# Altium integrated library TI Data Converters Digital to Analog Converter.IntLib: 1533 symbols (part 72 of 99)
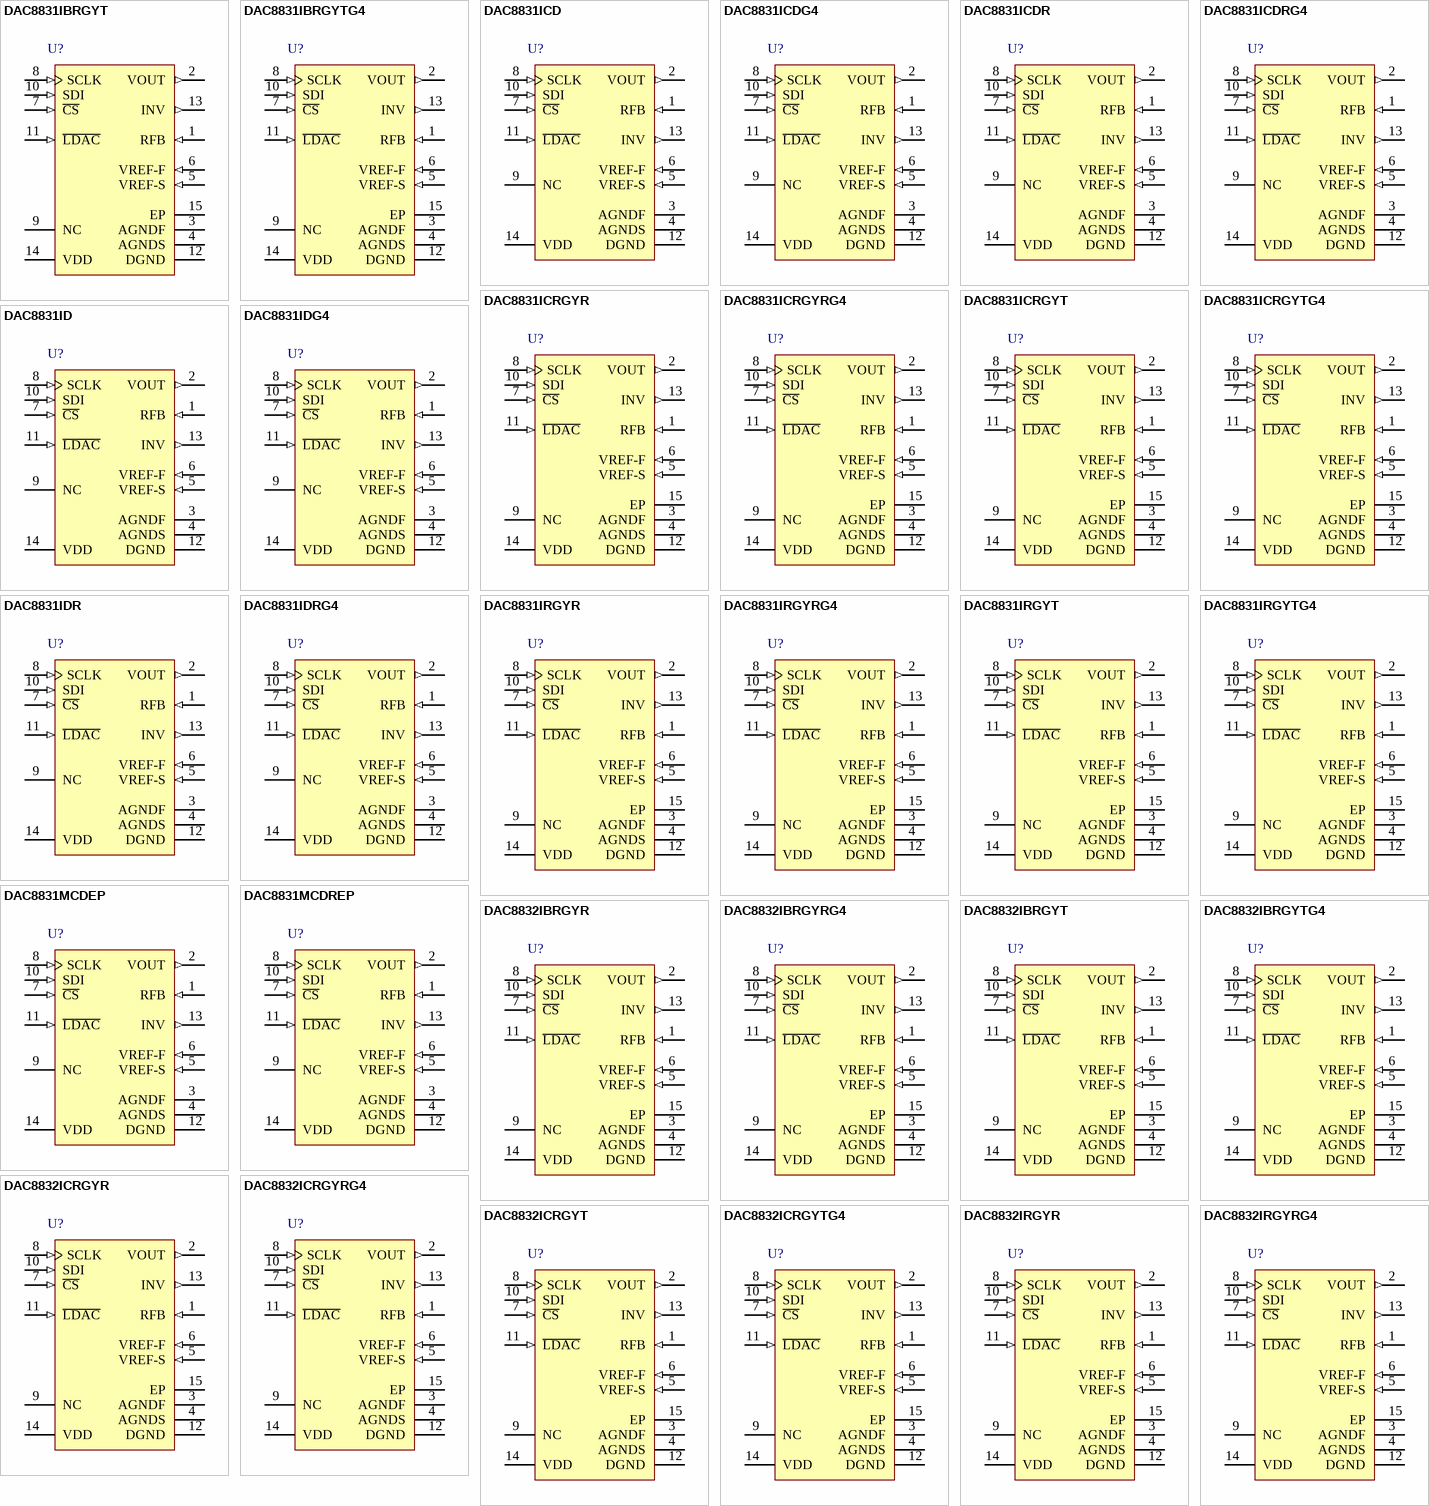
[diagram p144: symbols DAC8831IBRGYT to DAC8832IRGYRG4]

## DAC8831IBRGYTG4
designator U?
16-Bit, Ultra-Low Power, Voltage Output Digital to Analog Converter, -40 to 85 degC, 14-pin QFN (RGY14), Green (RoHS & no Sb/Br); Manufacturer: Texas Instruments; PartNumber: DAC8831IBRGYTG4; DAC Channels: 1; INL(Max)(+/-LSB): 2; Interface: Serial SPI; Power Consumption(Typ)(mW): 0.015; Resolution(Bits): 16; SubFamily: Precision DAC (=<10MSPS); DatasheetVersion: SLAS449D; PackageVersion: 4203539-2/I, 06/2011; PackageReference: RGY14-2050X2050TP; PackageDescription: 14-Pin Plastic Flat Pack, Body 3.5 x 3.5 mm, Pitch 0.5 mm; Supplier 1: Digi-Key; Supplier Part Number 1: DAC8831IBRGYTG4-ND; Supplier 2: Mouser; Supplier Part Number 2: 595-DAC8831IBRGYTG4; DNL(Max)(+/-LSB): 1; Eco-Plan: Green (RoHS & no Sb/Br); Settling Time(us): 1; Mounting Technology: Surface Mount; Code_JEDEC: MO-241; ComponentLink1Description: Manufacturer URL; ComponentLink1URL: http://www.ti.com/; ComponentLink2Description: Datasheet; ComponentLink2URL: http://www.ti.com/general/docs/lit/getliterature.tsp?genericPartNumber=DAC8831&fileType=pdf; ComponentLink3Description: Package Specification; ComponentLink3URL: http://www.ti.com/lit/ml/mpqf114g/mpqf114g.pdf
footprint TI-RGY14-2050X2050TP_V (QFN, 14-Leads, Body 3.5x3.5mm, Pitch 0.5mm, Thermal Pad 2.05x2.05mm)
pins: 1 RFB (in) "Feedback resistor. Connect to the output of external operational amplifier in bipolar mode.", 2 VOUT (out) "Analog output of DAC", 3 AGNDF (power) "Analog ground (Force)", 4 AGNDS (power) "Analog ground (Sense)", 5 VREF-S (in) "Voltage reference input (Sense). Connect to external voltage reference", 6 VREF-F (in) "Voltage reference input (Force). Connect to external voltage reference", 7 ~{CS} (in) "Chip select input (active low). Data are not clocked into SDI unless C\S\ is low.", 8 SCLK (in) "Serial clock input.", 9 NC "No internal connection", 10 SDI (in) "Serial data input. Data are latched into input register on the rising edge of SCLK", 11 ~{LDAC} (in) "Load DAC control input. Active low. When L\D\A\C\ is Low, the DAC latch is simultaneously updated with the content of the input register.", 12 DGND (power) "Digital ground", 13 INV (out) "Junction point of internal scaling resistors. Connect to external operational amplifier inverting input in bipolar mode.", 14 VDD (power) "Analog power supply, +3 V to +5 V", 15 EP (power) "Exposed thermal pad in the QFN package must be connected to analog ground."

## DAC8831ICD
designator U?
16-Bit, Ultra-Low Power, Voltage Output Digital to Analog Converter, -40 to 85 degC, 14-pin SOIC (D14), Green (RoHS & no Sb/Br); Manufacturer: Texas Instruments; PartNumber: DAC8831ICD; DAC Channels: 1; Interface: Serial SPI; Power Consumption(Typ)(mW): 0.015; Resolution(Bits): 16; SubFamily: Precision DAC (=<10MSPS); DatasheetVersion: SLAS449D; PackageVersion: 4040047-5/M, 06/2011; PackageReference: D14; PackageDescription: 14-Pin Plastic Small Outline, Body 8.65 x 3.9 mm, Pitch 1.27 mm; Supplier 1: Digi-Key; Supplier Part Number 1: 296-18029-5-ND; Supplier 2: Farnell; Supplier Part Number 2: 1407780; Supplier 3: Newark; Supplier Part Number 3: 33K5140; Supplier 4: Mouser; Supplier Part Number 4: 595-DAC8831ICD; DNL(Max)(+/-LSB): 1; Eco-Plan: Green (RoHS & no Sb/Br); INL(Max)(+/-LSB): 1; Settling Time(us): 1; Mounting Technology: Surface Mount; Code_JEDEC: MS-012; ComponentLink1Description: Manufacturer URL; ComponentLink1URL: http://www.ti.com/; ComponentLink2Description: Datasheet; ComponentLink2URL: http://www.ti.com/general/docs/lit/getliterature.tsp?genericPartNumber=DAC8831&fileType=pdf; ComponentLink3Description: Package Specification; ComponentLink3URL: http://www.ti.com/lit/ml/mpds177g/mpds177g.pdf
footprint TI-D14_N (SOIC, 14-Leads, Body 8.65x3.9mm, Pitch 1.27mm, IPC Medium Density)
footprint TI-D14_L (SOIC, 14-Leads, Body 8.65x3.9mm, Pitch 1.27mm, IPC High Density)
footprint TI-D14_M (SOIC, 14-Leads, Body 8.65x3.9mm, Pitch 1.27mm, IPC Low Density)
pins: 1 RFB (in) "Feedback resistor. Connect to the output of external operational amplifier in bipolar mode.", 2 VOUT (out) "Analog output of DAC", 3 AGNDF (power) "Analog ground (Force)", 4 AGNDS (power) "Analog ground (Sense)", 5 VREF-S (in) "Voltage reference input (Sense). Connect to external voltage reference", 6 VREF-F (in) "Voltage reference input (Force). Connect to external voltage reference", 7 ~{CS} (in) "Chip select input (active low). Data are not clocked into SDI unless C\S\ is low.", 8 SCLK (in) "Serial clock input.", 9 NC "No internal connection", 10 SDI (in) "Serial data input. Data are latched into input register on the rising edge of SCLK.", 11 ~{LDAC} (in) "Load DAC control input. Active low. When L\D\A\C\ is Low, the DAC latch is simultaneously updated with the content of the input register.", 12 DGND (power) "Digital ground", 13 INV (out) "Junction point of internal scaling resistors. Connect to external operational amplifier inverting input in bipolar mode.", 14 VDD (power) "Analog power supply, +3 V to +5 V."

## DAC8831ICDG4
designator U?
16-Bit, Ultra-Low Power, Voltage Output Digital to Analog Converter, -40 to 85 degC, 14-pin SOIC (D14), Green (RoHS & no Sb/Br); Manufacturer: Texas Instruments; PartNumber: DAC8831ICDG4; DAC Channels: 1; Interface: Serial SPI; Power Consumption(Typ)(mW): 0.015; Resolution(Bits): 16; SubFamily: Precision DAC (=<10MSPS); DatasheetVersion: SLAS449D; PackageVersion: 4040047-5/M, 06/2011; PackageReference: D14; PackageDescription: 14-Pin Plastic Small Outline, Body 8.65 x 3.9 mm, Pitch 1.27 mm; Supplier 1: Digi-Key; Supplier Part Number 1: DAC8831ICDG4-ND; Supplier 2: Mouser; Supplier Part Number 2: 595-DAC8831ICDG4; DNL(Max)(+/-LSB): 1; Eco-Plan: Green (RoHS & no Sb/Br); INL(Max)(+/-LSB): 1; Settling Time(us): 1; Mounting Technology: Surface Mount; Code_JEDEC: MS-012; ComponentLink1Description: Manufacturer URL; ComponentLink1URL: http://www.ti.com/; ComponentLink2Description: Datasheet; ComponentLink2URL: http://www.ti.com/general/docs/lit/getliterature.tsp?genericPartNumber=DAC8831&fileType=pdf; ComponentLink3Description: Package Specification; ComponentLink3URL: http://www.ti.com/lit/ml/mpds177g/mpds177g.pdf
footprint TI-D14_N (SOIC, 14-Leads, Body 8.65x3.9mm, Pitch 1.27mm, IPC Medium Density)
footprint TI-D14_L (SOIC, 14-Leads, Body 8.65x3.9mm, Pitch 1.27mm, IPC High Density)
footprint TI-D14_M (SOIC, 14-Leads, Body 8.65x3.9mm, Pitch 1.27mm, IPC Low Density)
pins: 1 RFB (in) "Feedback resistor. Connect to the output of external operational amplifier in bipolar mode.", 2 VOUT (out) "Analog output of DAC", 3 AGNDF (power) "Analog ground (Force)", 4 AGNDS (power) "Analog ground (Sense)", 5 VREF-S (in) "Voltage reference input (Sense). Connect to external voltage reference", 6 VREF-F (in) "Voltage reference input (Force). Connect to external voltage reference", 7 ~{CS} (in) "Chip select input (active low). Data are not clocked into SDI unless C\S\ is low.", 8 SCLK (in) "Serial clock input.", 9 NC "No internal connection", 10 SDI (in) "Serial data input. Data are latched into input register on the rising edge of SCLK.", 11 ~{LDAC} (in) "Load DAC control input. Active low. When L\D\A\C\ is Low, the DAC latch is simultaneously updated with the content of the input register.", 12 DGND (power) "Digital ground", 13 INV (out) "Junction point of internal scaling resistors. Connect to external operational amplifier inverting input in bipolar mode.", 14 VDD (power) "Analog power supply, +3 V to +5 V."

## DAC8831ICDR
designator U?
16-Bit, Ultra-Low Power, Voltage Output Digital to Analog Converter, -40 to 85 degC, 14-pin SOIC (D14), Green (RoHS & no Sb/Br); Manufacturer: Texas Instruments; PartNumber: DAC8831ICDR; DAC Channels: 1; Interface: Serial SPI; Power Consumption(Typ)(mW): 0.015; Resolution(Bits): 16; SubFamily: Precision DAC (=<10MSPS); DatasheetVersion: SLAS449D; PackageVersion: 4040047-5/M, 06/2011; PackageReference: D14; PackageDescription: 14-Pin Plastic Small Outline, Body 8.65 x 3.9 mm, Pitch 1.27 mm; Supplier 1: Digi-Key; Supplier Part Number 1: DAC8831ICDR-ND; Supplier 2: Mouser; Supplier Part Number 2: 595-DAC8831ICDR; DNL(Max)(+/-LSB): 1; Eco-Plan: Green (RoHS & no Sb/Br); INL(Max)(+/-LSB): 1; Settling Time(us): 1; Mounting Technology: Surface Mount; Code_JEDEC: MS-012; ComponentLink1Description: Manufacturer URL; ComponentLink1URL: http://www.ti.com/; ComponentLink2Description: Datasheet; ComponentLink2URL: http://www.ti.com/general/docs/lit/getliterature.tsp?genericPartNumber=DAC8831&fileType=pdf; ComponentLink3Description: Package Specification; ComponentLink3URL: http://www.ti.com/lit/ml/mpds177g/mpds177g.pdf
footprint TI-D14_N (SOIC, 14-Leads, Body 8.65x3.9mm, Pitch 1.27mm, IPC Medium Density)
footprint TI-D14_L (SOIC, 14-Leads, Body 8.65x3.9mm, Pitch 1.27mm, IPC High Density)
footprint TI-D14_M (SOIC, 14-Leads, Body 8.65x3.9mm, Pitch 1.27mm, IPC Low Density)
pins: 1 RFB (in) "Feedback resistor. Connect to the output of external operational amplifier in bipolar mode.", 2 VOUT (out) "Analog output of DAC", 3 AGNDF (power) "Analog ground (Force)", 4 AGNDS (power) "Analog ground (Sense)", 5 VREF-S (in) "Voltage reference input (Sense). Connect to external voltage reference", 6 VREF-F (in) "Voltage reference input (Force). Connect to external voltage reference", 7 ~{CS} (in) "Chip select input (active low). Data are not clocked into SDI unless C\S\ is low.", 8 SCLK (in) "Serial clock input.", 9 NC "No internal connection", 10 SDI (in) "Serial data input. Data are latched into input register on the rising edge of SCLK.", 11 ~{LDAC} (in) "Load DAC control input. Active low. When L\D\A\C\ is Low, the DAC latch is simultaneously updated with the content of the input register.", 12 DGND (power) "Digital ground", 13 INV (out) "Junction point of internal scaling resistors. Connect to external operational amplifier inverting input in bipolar mode.", 14 VDD (power) "Analog power supply, +3 V to +5 V."

## DAC8831ICDRG4
designator U?
16-Bit, Ultra-Low Power, Voltage Output Digital to Analog Converter, -40 to 85 degC, 14-pin SOIC (D14), Green (RoHS & no Sb/Br); Manufacturer: Texas Instruments; PartNumber: DAC8831ICDRG4; DAC Channels: 1; Interface: Serial SPI; Power Consumption(Typ)(mW): 0.015; Resolution(Bits): 16; SubFamily: Precision DAC (=<10MSPS); DatasheetVersion: SLAS449D; PackageVersion: 4040047-5/M, 06/2011; PackageReference: D14; PackageDescription: 14-Pin Plastic Small Outline, Body 8.65 x 3.9 mm, Pitch 1.27 mm; Supplier 1: Digi-Key; Supplier Part Number 1: DAC8831ICDRG4-ND; Supplier 2: Mouser; Supplier Part Number 2: 595-DAC8831ICDRG4; DNL(Max)(+/-LSB): 1; Eco-Plan: Green (RoHS & no Sb/Br); INL(Max)(+/-LSB): 1; Settling Time(us): 1; Mounting Technology: Surface Mount; Code_JEDEC: MS-012; ComponentLink1Description: Manufacturer URL; ComponentLink1URL: http://www.ti.com/; ComponentLink2Description: Datasheet; ComponentLink2URL: http://www.ti.com/general/docs/lit/getliterature.tsp?genericPartNumber=DAC8831&fileType=pdf; ComponentLink3Description: Package Specification; ComponentLink3URL: http://www.ti.com/lit/ml/mpds177g/mpds177g.pdf
footprint TI-D14_N (SOIC, 14-Leads, Body 8.65x3.9mm, Pitch 1.27mm, IPC Medium Density)
footprint TI-D14_L (SOIC, 14-Leads, Body 8.65x3.9mm, Pitch 1.27mm, IPC High Density)
footprint TI-D14_M (SOIC, 14-Leads, Body 8.65x3.9mm, Pitch 1.27mm, IPC Low Density)
pins: 1 RFB (in) "Feedback resistor. Connect to the output of external operational amplifier in bipolar mode.", 2 VOUT (out) "Analog output of DAC", 3 AGNDF (power) "Analog ground (Force)", 4 AGNDS (power) "Analog ground (Sense)", 5 VREF-S (in) "Voltage reference input (Sense). Connect to external voltage reference", 6 VREF-F (in) "Voltage reference input (Force). Connect to external voltage reference", 7 ~{CS} (in) "Chip select input (active low). Data are not clocked into SDI unless C\S\ is low.", 8 SCLK (in) "Serial clock input.", 9 NC "No internal connection", 10 SDI (in) "Serial data input. Data are latched into input register on the rising edge of SCLK.", 11 ~{LDAC} (in) "Load DAC control input. Active low. When L\D\A\C\ is Low, the DAC latch is simultaneously updated with the content of the input register.", 12 DGND (power) "Digital ground", 13 INV (out) "Junction point of internal scaling resistors. Connect to external operational amplifier inverting input in bipolar mode.", 14 VDD (power) "Analog power supply, +3 V to +5 V."

## DAC8831ICRGYR
designator U?
16-Bit, Ultra-Low Power, Voltage Output Digital to Analog Converter, -40 to 85 degC, 14-pin QFN (RGY14), Green (RoHS & no Sb/Br); Manufacturer: Texas Instruments; PartNumber: DAC8831ICRGYR; DAC Channels: 1; Interface: Serial SPI; Power Consumption(Typ)(mW): 0.015; Resolution(Bits): 16; SubFamily: Precision DAC (=<10MSPS); DatasheetVersion: SLAS449D; PackageVersion: 4203539-2/I, 06/2011; PackageReference: RGY14-2050X2050TP; PackageDescription: 14-Pin Plastic Flat Pack, Body 3.5 x 3.5 mm, Pitch 0.5 mm; Supplier 1: Digi-Key; Supplier Part Number 1: DAC8831ICRGYR-ND; Supplier 2: Mouser; Supplier Part Number 2: 595-DAC8831ICRGYR; DNL(Max)(+/-LSB): 1; Eco-Plan: Green (RoHS & no Sb/Br); INL(Max)(+/-LSB): 1; Settling Time(us): 1; Mounting Technology: Surface Mount; Code_JEDEC: MO-241; ComponentLink1Description: Manufacturer URL; ComponentLink1URL: http://www.ti.com/; ComponentLink2Description: Datasheet; ComponentLink2URL: http://www.ti.com/general/docs/lit/getliterature.tsp?genericPartNumber=DAC8831&fileType=pdf; ComponentLink3Description: Package Specification; ComponentLink3URL: http://www.ti.com/lit/ml/mpqf114g/mpqf114g.pdf
footprint TI-RGY14-2050X2050TP_V (QFN, 14-Leads, Body 3.5x3.5mm, Pitch 0.5mm, Thermal Pad 2.05x2.05mm)
pins: 1 RFB (in) "Feedback resistor. Connect to the output of external operational amplifier in bipolar mode.", 2 VOUT (out) "Analog output of DAC", 3 AGNDF (power) "Analog ground (Force)", 4 AGNDS (power) "Analog ground (Sense)", 5 VREF-S (in) "Voltage reference input (Sense). Connect to external voltage reference", 6 VREF-F (in) "Voltage reference input (Force). Connect to external voltage reference", 7 ~{CS} (in) "Chip select input (active low). Data are not clocked into SDI unless C\S\ is low.", 8 SCLK (in) "Serial clock input.", 9 NC "No internal connection", 10 SDI (in) "Serial data input. Data are latched into input register on the rising edge of SCLK", 11 ~{LDAC} (in) "Load DAC control input. Active low. When L\D\A\C\ is Low, the DAC latch is simultaneously updated with the content of the input register.", 12 DGND (power) "Digital ground", 13 INV (out) "Junction point of internal scaling resistors. Connect to external operational amplifier inverting input in bipolar mode.", 14 VDD (power) "Analog power supply, +3 V to +5 V", 15 EP (power) "Exposed thermal pad in the QFN package must be connected to analog ground."

## DAC8831ICRGYRG4
designator U?
16-Bit, Ultra-Low Power, Voltage Output Digital to Analog Converter, -40 to 85 degC, 14-pin QFN (RGY14), Green (RoHS & no Sb/Br); Manufacturer: Texas Instruments; PartNumber: DAC8831ICRGYRG4; DAC Channels: 1; Interface: Serial SPI; Power Consumption(Typ)(mW): 0.015; Resolution(Bits): 16; SubFamily: Precision DAC (=<10MSPS); DatasheetVersion: SLAS449D; PackageVersion: 4203539-2/I, 06/2011; PackageReference: RGY14-2050X2050TP; PackageDescription: 14-Pin Plastic Flat Pack, Body 3.5 x 3.5 mm, Pitch 0.5 mm; Supplier 1: Digi-Key; Supplier Part Number 1: DAC8831ICRGYRG4-ND; Supplier 2: Mouser; Supplier Part Number 2: 595-DAC8831ICRGYRG4; DNL(Max)(+/-LSB): 1; Eco-Plan: Green (RoHS & no Sb/Br); INL(Max)(+/-LSB): 1; Settling Time(us): 1; Mounting Technology: Surface Mount; Code_JEDEC: MO-241; ComponentLink1Description: Manufacturer URL; ComponentLink1URL: http://www.ti.com/; ComponentLink2Description: Datasheet; ComponentLink2URL: http://www.ti.com/general/docs/lit/getliterature.tsp?genericPartNumber=DAC8831&fileType=pdf; ComponentLink3Description: Package Specification; ComponentLink3URL: http://www.ti.com/lit/ml/mpqf114g/mpqf114g.pdf
footprint TI-RGY14-2050X2050TP_V (QFN, 14-Leads, Body 3.5x3.5mm, Pitch 0.5mm, Thermal Pad 2.05x2.05mm)
pins: 1 RFB (in) "Feedback resistor. Connect to the output of external operational amplifier in bipolar mode.", 2 VOUT (out) "Analog output of DAC", 3 AGNDF (power) "Analog ground (Force)", 4 AGNDS (power) "Analog ground (Sense)", 5 VREF-S (in) "Voltage reference input (Sense). Connect to external voltage reference", 6 VREF-F (in) "Voltage reference input (Force). Connect to external voltage reference", 7 ~{CS} (in) "Chip select input (active low). Data are not clocked into SDI unless C\S\ is low.", 8 SCLK (in) "Serial clock input.", 9 NC "No internal connection", 10 SDI (in) "Serial data input. Data are latched into input register on the rising edge of SCLK", 11 ~{LDAC} (in) "Load DAC control input. Active low. When L\D\A\C\ is Low, the DAC latch is simultaneously updated with the content of the input register.", 12 DGND (power) "Digital ground", 13 INV (out) "Junction point of internal scaling resistors. Connect to external operational amplifier inverting input in bipolar mode.", 14 VDD (power) "Analog power supply, +3 V to +5 V", 15 EP (power) "Exposed thermal pad in the QFN package must be connected to analog ground."

## DAC8831ICRGYT
designator U?
16-Bit, Ultra-Low Power, Voltage Output Digital to Analog Converter, -40 to 85 degC, 14-pin QFN (RGY14), Green (RoHS & no Sb/Br); Manufacturer: Texas Instruments; PartNumber: DAC8831ICRGYT; DAC Channels: 1; Interface: Serial SPI; Power Consumption(Typ)(mW): 0.015; Resolution(Bits): 16; SubFamily: Precision DAC (=<10MSPS); DatasheetVersion: SLAS449D; PackageVersion: 4203539-2/I, 06/2011; PackageReference: RGY14-2050X2050TP; PackageDescription: 14-Pin Plastic Flat Pack, Body 3.5 x 3.5 mm, Pitch 0.5 mm; Supplier 1: Digi-Key; Supplier Part Number 1: 296-20704-2-ND; Supplier 2: Digi-Key; Supplier Part Number 2: 296-20704-1-ND; Supplier 3: Digi-Key; Supplier Part Number 3: 296-20704-6-ND; Supplier 4: Mouser; Supplier Part Number 4: 595-DAC8831ICRGYT; DNL(Max)(+/-LSB): 1; Eco-Plan: Green (RoHS & no Sb/Br); INL(Max)(+/-LSB): 1; Settling Time(us): 1; Mounting Technology: Surface Mount; Code_JEDEC: MO-241; ComponentLink1Description: Manufacturer URL; ComponentLink1URL: http://www.ti.com/; ComponentLink2Description: Datasheet; ComponentLink2URL: http://www.ti.com/general/docs/lit/getliterature.tsp?genericPartNumber=DAC8831&fileType=pdf; ComponentLink3Description: Package Specification; ComponentLink3URL: http://www.ti.com/lit/ml/mpqf114g/mpqf114g.pdf
footprint TI-RGY14-2050X2050TP_V (QFN, 14-Leads, Body 3.5x3.5mm, Pitch 0.5mm, Thermal Pad 2.05x2.05mm)
pins: 1 RFB (in) "Feedback resistor. Connect to the output of external operational amplifier in bipolar mode.", 2 VOUT (out) "Analog output of DAC", 3 AGNDF (power) "Analog ground (Force)", 4 AGNDS (power) "Analog ground (Sense)", 5 VREF-S (in) "Voltage reference input (Sense). Connect to external voltage reference", 6 VREF-F (in) "Voltage reference input (Force). Connect to external voltage reference", 7 ~{CS} (in) "Chip select input (active low). Data are not clocked into SDI unless C\S\ is low.", 8 SCLK (in) "Serial clock input.", 9 NC "No internal connection", 10 SDI (in) "Serial data input. Data are latched into input register on the rising edge of SCLK", 11 ~{LDAC} (in) "Load DAC control input. Active low. When L\D\A\C\ is Low, the DAC latch is simultaneously updated with the content of the input register.", 12 DGND (power) "Digital ground", 13 INV (out) "Junction point of internal scaling resistors. Connect to external operational amplifier inverting input in bipolar mode.", 14 VDD (power) "Analog power supply, +3 V to +5 V", 15 EP (power) "Exposed thermal pad in the QFN package must be connected to analog ground."

## DAC8831ICRGYTG4
designator U?
16-Bit, Ultra-Low Power, Voltage Output Digital to Analog Converter, -40 to 85 degC, 14-pin QFN (RGY14), Green (RoHS & no Sb/Br); Manufacturer: Texas Instruments; PartNumber: DAC8831ICRGYTG4; DAC Channels: 1; Interface: Serial SPI; Power Consumption(Typ)(mW): 0.015; Resolution(Bits): 16; SubFamily: Precision DAC (=<10MSPS); DatasheetVersion: SLAS449D; PackageVersion: 4203539-2/I, 06/2011; PackageReference: RGY14-2050X2050TP; PackageDescription: 14-Pin Plastic Flat Pack, Body 3.5 x 3.5 mm, Pitch 0.5 mm; Supplier 1: Digi-Key; Supplier Part Number 1: DAC8831ICRGYTG4-ND; Supplier 2: Mouser; Supplier Part Number 2: 595-DAC8831ICRGYTG4; DNL(Max)(+/-LSB): 1; Eco-Plan: Green (RoHS & no Sb/Br); INL(Max)(+/-LSB): 1; Settling Time(us): 1; Mounting Technology: Surface Mount; Code_JEDEC: MO-241; ComponentLink1Description: Manufacturer URL; ComponentLink1URL: http://www.ti.com/; ComponentLink2Description: Datasheet; ComponentLink2URL: http://www.ti.com/general/docs/lit/getliterature.tsp?genericPartNumber=DAC8831&fileType=pdf; ComponentLink3Description: Package Specification; ComponentLink3URL: http://www.ti.com/lit/ml/mpqf114g/mpqf114g.pdf
footprint TI-RGY14-2050X2050TP_V (QFN, 14-Leads, Body 3.5x3.5mm, Pitch 0.5mm, Thermal Pad 2.05x2.05mm)
pins: 1 RFB (in) "Feedback resistor. Connect to the output of external operational amplifier in bipolar mode.", 2 VOUT (out) "Analog output of DAC", 3 AGNDF (power) "Analog ground (Force)", 4 AGNDS (power) "Analog ground (Sense)", 5 VREF-S (in) "Voltage reference input (Sense). Connect to external voltage reference", 6 VREF-F (in) "Voltage reference input (Force). Connect to external voltage reference", 7 ~{CS} (in) "Chip select input (active low). Data are not clocked into SDI unless C\S\ is low.", 8 SCLK (in) "Serial clock input.", 9 NC "No internal connection", 10 SDI (in) "Serial data input. Data are latched into input register on the rising edge of SCLK", 11 ~{LDAC} (in) "Load DAC control input. Active low. When L\D\A\C\ is Low, the DAC latch is simultaneously updated with the content of the input register.", 12 DGND (power) "Digital ground", 13 INV (out) "Junction point of internal scaling resistors. Connect to external operational amplifier inverting input in bipolar mode.", 14 VDD (power) "Analog power supply, +3 V to +5 V", 15 EP (power) "Exposed thermal pad in the QFN package must be connected to analog ground."

## DAC8831ID
designator U?
16-Bit, Ultra-Low Power, Voltage Output Digital to Analog Converter, -40 to 85 degC, 14-pin SOIC (D14), Green (RoHS & no Sb/Br); Manufacturer: Texas Instruments; PartNumber: DAC8831ID; DAC Channels: 1; INL(Max)(+/-LSB): 4; Interface: Serial SPI; Power Consumption(Typ)(mW): 0.015; Resolution(Bits): 16; SubFamily: Precision DAC (=<10MSPS); DatasheetVersion: SLAS449D; PackageVersion: 4040047-5/M, 06/2011; PackageReference: D14; PackageDescription: 14-Pin Plastic Small Outline, Body 8.65 x 3.9 mm, Pitch 1.27 mm; Supplier 1: Digi-Key; Supplier Part Number 1: 296-18030-5-ND; Supplier 2: Farnell; Supplier Part Number 2: 1407782; Supplier 3: Mouser; Supplier Part Number 3: 595-DAC8831ID; DNL(Max)(+/-LSB): 1; Eco-Plan: Green (RoHS & no Sb/Br); Settling Time(us): 1; Mounting Technology: Surface Mount; Code_JEDEC: MS-012; ComponentLink1Description: Manufacturer URL; ComponentLink1URL: http://www.ti.com/; ComponentLink2Description: Datasheet; ComponentLink2URL: http://www.ti.com/general/docs/lit/getliterature.tsp?genericPartNumber=DAC8831&fileType=pdf; ComponentLink3Description: Package Specification; ComponentLink3URL: http://www.ti.com/lit/ml/mpds177g/mpds177g.pdf
footprint TI-D14_N (SOIC, 14-Leads, Body 8.65x3.9mm, Pitch 1.27mm, IPC Medium Density)
footprint TI-D14_L (SOIC, 14-Leads, Body 8.65x3.9mm, Pitch 1.27mm, IPC High Density)
footprint TI-D14_M (SOIC, 14-Leads, Body 8.65x3.9mm, Pitch 1.27mm, IPC Low Density)
pins: 1 RFB (in) "Feedback resistor. Connect to the output of external operational amplifier in bipolar mode.", 2 VOUT (out) "Analog output of DAC", 3 AGNDF (power) "Analog ground (Force)", 4 AGNDS (power) "Analog ground (Sense)", 5 VREF-S (in) "Voltage reference input (Sense). Connect to external voltage reference", 6 VREF-F (in) "Voltage reference input (Force). Connect to external voltage reference", 7 ~{CS} (in) "Chip select input (active low). Data are not clocked into SDI unless C\S\ is low.", 8 SCLK (in) "Serial clock input.", 9 NC "No internal connection", 10 SDI (in) "Serial data input. Data are latched into input register on the rising edge of SCLK.", 11 ~{LDAC} (in) "Load DAC control input. Active low. When L\D\A\C\ is Low, the DAC latch is simultaneously updated with the content of the input register.", 12 DGND (power) "Digital ground", 13 INV (out) "Junction point of internal scaling resistors. Connect to external operational amplifier inverting input in bipolar mode.", 14 VDD (power) "Analog power supply, +3 V to +5 V."

## DAC8831IDG4
designator U?
16-Bit, Ultra-Low Power, Voltage Output Digital to Analog Converter, -40 to 85 degC, 14-pin SOIC (D14), Green (RoHS & no Sb/Br); Manufacturer: Texas Instruments; PartNumber: DAC8831IDG4; DAC Channels: 1; INL(Max)(+/-LSB): 4; Interface: Serial SPI; Power Consumption(Typ)(mW): 0.015; Resolution(Bits): 16; SubFamily: Precision DAC (=<10MSPS); DatasheetVersion: SLAS449D; PackageVersion: 4040047-5/M, 06/2011; PackageReference: D14; PackageDescription: 14-Pin Plastic Small Outline, Body 8.65 x 3.9 mm, Pitch 1.27 mm; Supplier 1: Digi-Key; Supplier Part Number 1: DAC8831IDG4-ND; Supplier 2: Mouser; Supplier Part Number 2: 595-DAC8831IDG4; DNL(Max)(+/-LSB): 1; Eco-Plan: Green (RoHS & no Sb/Br); Settling Time(us): 1; Mounting Technology: Surface Mount; Code_JEDEC: MS-012; ComponentLink1Description: Manufacturer URL; ComponentLink1URL: http://www.ti.com/; ComponentLink2Description: Datasheet; ComponentLink2URL: http://www.ti.com/general/docs/lit/getliterature.tsp?genericPartNumber=DAC8831&fileType=pdf; ComponentLink3Description: Package Specification; ComponentLink3URL: http://www.ti.com/lit/ml/mpds177g/mpds177g.pdf
footprint TI-D14_N (SOIC, 14-Leads, Body 8.65x3.9mm, Pitch 1.27mm, IPC Medium Density)
footprint TI-D14_L (SOIC, 14-Leads, Body 8.65x3.9mm, Pitch 1.27mm, IPC High Density)
footprint TI-D14_M (SOIC, 14-Leads, Body 8.65x3.9mm, Pitch 1.27mm, IPC Low Density)
pins: 1 RFB (in) "Feedback resistor. Connect to the output of external operational amplifier in bipolar mode.", 2 VOUT (out) "Analog output of DAC", 3 AGNDF (power) "Analog ground (Force)", 4 AGNDS (power) "Analog ground (Sense)", 5 VREF-S (in) "Voltage reference input (Sense). Connect to external voltage reference", 6 VREF-F (in) "Voltage reference input (Force). Connect to external voltage reference", 7 ~{CS} (in) "Chip select input (active low). Data are not clocked into SDI unless C\S\ is low.", 8 SCLK (in) "Serial clock input.", 9 NC "No internal connection", 10 SDI (in) "Serial data input. Data are latched into input register on the rising edge of SCLK.", 11 ~{LDAC} (in) "Load DAC control input. Active low. When L\D\A\C\ is Low, the DAC latch is simultaneously updated with the content of the input register.", 12 DGND (power) "Digital ground", 13 INV (out) "Junction point of internal scaling resistors. Connect to external operational amplifier inverting input in bipolar mode.", 14 VDD (power) "Analog power supply, +3 V to +5 V."

## DAC8831IDR
designator U?
16-Bit, Ultra-Low Power, Voltage Output Digital to Analog Converter, -40 to 85 degC, 14-pin SOIC (D14), Green (RoHS & no Sb/Br); Manufacturer: Texas Instruments; PartNumber: DAC8831IDR; DAC Channels: 1; INL(Max)(+/-LSB): 4; Interface: Serial SPI; Power Consumption(Typ)(mW): 0.015; Resolution(Bits): 16; SubFamily: Precision DAC (=<10MSPS); DatasheetVersion: SLAS449D; PackageVersion: 4040047-5/M, 06/2011; PackageReference: D14; PackageDescription: 14-Pin Plastic Small Outline, Body 8.65 x 3.9 mm, Pitch 1.27 mm; Supplier 1: Digi-Key; Supplier Part Number 1: DAC8831IDR-ND; Supplier 2: Mouser; Supplier Part Number 2: 595-DAC8831IDR; DNL(Max)(+/-LSB): 1; Eco-Plan: Green (RoHS & no Sb/Br); Settling Time(us): 1; Mounting Technology: Surface Mount; Code_JEDEC: MS-012; ComponentLink1Description: Manufacturer URL; ComponentLink1URL: http://www.ti.com/; ComponentLink2Description: Datasheet; ComponentLink2URL: http://www.ti.com/general/docs/lit/getliterature.tsp?genericPartNumber=DAC8831&fileType=pdf; ComponentLink3Description: Package Specification; ComponentLink3URL: http://www.ti.com/lit/ml/mpds177g/mpds177g.pdf
footprint TI-D14_N (SOIC, 14-Leads, Body 8.65x3.9mm, Pitch 1.27mm, IPC Medium Density)
footprint TI-D14_L (SOIC, 14-Leads, Body 8.65x3.9mm, Pitch 1.27mm, IPC High Density)
footprint TI-D14_M (SOIC, 14-Leads, Body 8.65x3.9mm, Pitch 1.27mm, IPC Low Density)
pins: 1 RFB (in) "Feedback resistor. Connect to the output of external operational amplifier in bipolar mode.", 2 VOUT (out) "Analog output of DAC", 3 AGNDF (power) "Analog ground (Force)", 4 AGNDS (power) "Analog ground (Sense)", 5 VREF-S (in) "Voltage reference input (Sense). Connect to external voltage reference", 6 VREF-F (in) "Voltage reference input (Force). Connect to external voltage reference", 7 ~{CS} (in) "Chip select input (active low). Data are not clocked into SDI unless C\S\ is low.", 8 SCLK (in) "Serial clock input.", 9 NC "No internal connection", 10 SDI (in) "Serial data input. Data are latched into input register on the rising edge of SCLK.", 11 ~{LDAC} (in) "Load DAC control input. Active low. When L\D\A\C\ is Low, the DAC latch is simultaneously updated with the content of the input register.", 12 DGND (power) "Digital ground", 13 INV (out) "Junction point of internal scaling resistors. Connect to external operational amplifier inverting input in bipolar mode.", 14 VDD (power) "Analog power supply, +3 V to +5 V."

## DAC8831IDRG4
designator U?
16-Bit, Ultra-Low Power, Voltage Output Digital to Analog Converter, -40 to 85 degC, 14-pin SOIC (D14), Green (RoHS & no Sb/Br); Manufacturer: Texas Instruments; PartNumber: DAC8831IDRG4; DAC Channels: 1; INL(Max)(+/-LSB): 4; Interface: Serial SPI; Power Consumption(Typ)(mW): 0.015; Resolution(Bits): 16; SubFamily: Precision DAC (=<10MSPS); DatasheetVersion: SLAS449D; PackageVersion: 4040047-5/M, 06/2011; PackageReference: D14; PackageDescription: 14-Pin Plastic Small Outline, Body 8.65 x 3.9 mm, Pitch 1.27 mm; Supplier 1: Digi-Key; Supplier Part Number 1: DAC8831IDRG4-ND; Supplier 2: Mouser; Supplier Part Number 2: 595-DAC8831IDRG4; DNL(Max)(+/-LSB): 1; Eco-Plan: Green (RoHS & no Sb/Br); Settling Time(us): 1; Mounting Technology: Surface Mount; Code_JEDEC: MS-012; ComponentLink1Description: Manufacturer URL; ComponentLink1URL: http://www.ti.com/; ComponentLink2Description: Datasheet; ComponentLink2URL: http://www.ti.com/general/docs/lit/getliterature.tsp?genericPartNumber=DAC8831&fileType=pdf; ComponentLink3Description: Package Specification; ComponentLink3URL: http://www.ti.com/lit/ml/mpds177g/mpds177g.pdf
footprint TI-D14_N (SOIC, 14-Leads, Body 8.65x3.9mm, Pitch 1.27mm, IPC Medium Density)
footprint TI-D14_L (SOIC, 14-Leads, Body 8.65x3.9mm, Pitch 1.27mm, IPC High Density)
footprint TI-D14_M (SOIC, 14-Leads, Body 8.65x3.9mm, Pitch 1.27mm, IPC Low Density)
pins: 1 RFB (in) "Feedback resistor. Connect to the output of external operational amplifier in bipolar mode.", 2 VOUT (out) "Analog output of DAC", 3 AGNDF (power) "Analog ground (Force)", 4 AGNDS (power) "Analog ground (Sense)", 5 VREF-S (in) "Voltage reference input (Sense). Connect to external voltage reference", 6 VREF-F (in) "Voltage reference input (Force). Connect to external voltage reference", 7 ~{CS} (in) "Chip select input (active low). Data are not clocked into SDI unless C\S\ is low.", 8 SCLK (in) "Serial clock input.", 9 NC "No internal connection", 10 SDI (in) "Serial data input. Data are latched into input register on the rising edge of SCLK.", 11 ~{LDAC} (in) "Load DAC control input. Active low. When L\D\A\C\ is Low, the DAC latch is simultaneously updated with the content of the input register.", 12 DGND (power) "Digital ground", 13 INV (out) "Junction point of internal scaling resistors. Connect to external operational amplifier inverting input in bipolar mode.", 14 VDD (power) "Analog power supply, +3 V to +5 V."

## DAC8831IRGYR
designator U?
16-Bit, Ultra-Low Power, Voltage Output Digital to Analog Converter, -40 to 85 degC, 14-pin QFN (RGY14), Green (RoHS & no Sb/Br); Manufacturer: Texas Instruments; PartNumber: DAC8831IRGYR; DAC Channels: 1; INL(Max)(+/-LSB): 4; Interface: Serial SPI; Power Consumption(Typ)(mW): 0.015; Resolution(Bits): 16; SubFamily: Precision DAC (=<10MSPS); DatasheetVersion: SLAS449D; PackageVersion: 4203539-2/I, 06/2011; PackageReference: RGY14-2050X2050TP; PackageDescription: 14-Pin Plastic Flat Pack, Body 3.5 x 3.5 mm, Pitch 0.5 mm; Supplier 1: Digi-Key; Supplier Part Number 1: DAC8831IRGYR-ND; Supplier 2: Mouser; Supplier Part Number 2: 595-DAC8831IRGYR; DNL(Max)(+/-LSB): 1; Eco-Plan: Green (RoHS & no Sb/Br); Settling Time(us): 1; Mounting Technology: Surface Mount; Code_JEDEC: MO-241; ComponentLink1Description: Manufacturer URL; ComponentLink1URL: http://www.ti.com/; ComponentLink2Description: Datasheet; ComponentLink2URL: http://www.ti.com/general/docs/lit/getliterature.tsp?genericPartNumber=DAC8831&fileType=pdf; ComponentLink3Description: Package Specification; ComponentLink3URL: http://www.ti.com/lit/ml/mpqf114g/mpqf114g.pdf
footprint TI-RGY14-2050X2050TP_V (QFN, 14-Leads, Body 3.5x3.5mm, Pitch 0.5mm, Thermal Pad 2.05x2.05mm)
pins: 1 RFB (in) "Feedback resistor. Connect to the output of external operational amplifier in bipolar mode.", 2 VOUT (out) "Analog output of DAC", 3 AGNDF (power) "Analog ground (Force)", 4 AGNDS (power) "Analog ground (Sense)", 5 VREF-S (in) "Voltage reference input (Sense). Connect to external voltage reference", 6 VREF-F (in) "Voltage reference input (Force). Connect to external voltage reference", 7 ~{CS} (in) "Chip select input (active low). Data are not clocked into SDI unless C\S\ is low.", 8 SCLK (in) "Serial clock input.", 9 NC "No internal connection", 10 SDI (in) "Serial data input. Data are latched into input register on the rising edge of SCLK", 11 ~{LDAC} (in) "Load DAC control input. Active low. When L\D\A\C\ is Low, the DAC latch is simultaneously updated with the content of the input register.", 12 DGND (power) "Digital ground", 13 INV (out) "Junction point of internal scaling resistors. Connect to external operational amplifier inverting input in bipolar mode.", 14 VDD (power) "Analog power supply, +3 V to +5 V", 15 EP (power) "Exposed thermal pad in the QFN package must be connected to analog ground."

## DAC8831IRGYRG4
designator U?
16-Bit, Ultra-Low Power, Voltage Output Digital to Analog Converter, -40 to 85 degC, 14-pin QFN (RGY14), Green (RoHS & no Sb/Br); Manufacturer: Texas Instruments; PartNumber: DAC8831IRGYRG4; DAC Channels: 1; INL(Max)(+/-LSB): 4; Interface: Serial SPI; Power Consumption(Typ)(mW): 0.015; Resolution(Bits): 16; SubFamily: Precision DAC (=<10MSPS); DatasheetVersion: SLAS449D; PackageVersion: 4203539-2/I, 06/2011; PackageReference: RGY14-2050X2050TP; PackageDescription: 14-Pin Plastic Flat Pack, Body 3.5 x 3.5 mm, Pitch 0.5 mm; Supplier 1: Digi-Key; Supplier Part Number 1: DAC8831IRGYRG4-ND; Supplier 2: Mouser; Supplier Part Number 2: 595-DAC8831IRGYRG4; DNL(Max)(+/-LSB): 1; Eco-Plan: Green (RoHS & no Sb/Br); Settling Time(us): 1; Mounting Technology: Surface Mount; Code_JEDEC: MO-241; ComponentLink1Description: Manufacturer URL; ComponentLink1URL: http://www.ti.com/; ComponentLink2Description: Datasheet; ComponentLink2URL: http://www.ti.com/general/docs/lit/getliterature.tsp?genericPartNumber=DAC8831&fileType=pdf; ComponentLink3Description: Package Specification; ComponentLink3URL: http://www.ti.com/lit/ml/mpqf114g/mpqf114g.pdf
footprint TI-RGY14-2050X2050TP_V (QFN, 14-Leads, Body 3.5x3.5mm, Pitch 0.5mm, Thermal Pad 2.05x2.05mm)
pins: 1 RFB (in) "Feedback resistor. Connect to the output of external operational amplifier in bipolar mode.", 2 VOUT (out) "Analog output of DAC", 3 AGNDF (power) "Analog ground (Force)", 4 AGNDS (power) "Analog ground (Sense)", 5 VREF-S (in) "Voltage reference input (Sense). Connect to external voltage reference", 6 VREF-F (in) "Voltage reference input (Force). Connect to external voltage reference", 7 ~{CS} (in) "Chip select input (active low). Data are not clocked into SDI unless C\S\ is low.", 8 SCLK (in) "Serial clock input.", 9 NC "No internal connection", 10 SDI (in) "Serial data input. Data are latched into input register on the rising edge of SCLK", 11 ~{LDAC} (in) "Load DAC control input. Active low. When L\D\A\C\ is Low, the DAC latch is simultaneously updated with the content of the input register.", 12 DGND (power) "Digital ground", 13 INV (out) "Junction point of internal scaling resistors. Connect to external operational amplifier inverting input in bipolar mode.", 14 VDD (power) "Analog power supply, +3 V to +5 V", 15 EP (power) "Exposed thermal pad in the QFN package must be connected to analog ground."

## DAC8831IRGYT
designator U?
16-Bit, Ultra-Low Power, Voltage Output Digital to Analog Converter, -40 to 85 degC, 14-pin QFN (RGY14), Green (RoHS & no Sb/Br); Manufacturer: Texas Instruments; PartNumber: DAC8831IRGYT; DAC Channels: 1; INL(Max)(+/-LSB): 4; Interface: Serial SPI; Power Consumption(Typ)(mW): 0.015; Resolution(Bits): 16; SubFamily: Precision DAC (=<10MSPS); DatasheetVersion: SLAS449D; PackageVersion: 4203539-2/I, 06/2011; PackageReference: RGY14-2050X2050TP; PackageDescription: 14-Pin Plastic Flat Pack, Body 3.5 x 3.5 mm, Pitch 0.5 mm; Supplier 1: Digi-Key; Supplier Part Number 1: 296-20705-2-ND; Supplier 2: Digi-Key; Supplier Part Number 2: 296-20705-1-ND; Supplier 3: Digi-Key; Supplier Part Number 3: 296-20705-6-ND; Supplier 4: Mouser; Supplier Part Number 4: 595-DAC8831IRGYT; DNL(Max)(+/-LSB): 1; Eco-Plan: Green (RoHS & no Sb/Br); Settling Time(us): 1; Mounting Technology: Surface Mount; Code_JEDEC: MO-241; ComponentLink1Description: Manufacturer URL; ComponentLink1URL: http://www.ti.com/; ComponentLink2Description: Datasheet; ComponentLink2URL: http://www.ti.com/general/docs/lit/getliterature.tsp?genericPartNumber=DAC8831&fileType=pdf; ComponentLink3Description: Package Specification; ComponentLink3URL: http://www.ti.com/lit/ml/mpqf114g/mpqf114g.pdf
footprint TI-RGY14-2050X2050TP_V (QFN, 14-Leads, Body 3.5x3.5mm, Pitch 0.5mm, Thermal Pad 2.05x2.05mm)
pins: 1 RFB (in) "Feedback resistor. Connect to the output of external operational amplifier in bipolar mode.", 2 VOUT (out) "Analog output of DAC", 3 AGNDF (power) "Analog ground (Force)", 4 AGNDS (power) "Analog ground (Sense)", 5 VREF-S (in) "Voltage reference input (Sense). Connect to external voltage reference", 6 VREF-F (in) "Voltage reference input (Force). Connect to external voltage reference", 7 ~{CS} (in) "Chip select input (active low). Data are not clocked into SDI unless C\S\ is low.", 8 SCLK (in) "Serial clock input.", 9 NC "No internal connection", 10 SDI (in) "Serial data input. Data are latched into input register on the rising edge of SCLK", 11 ~{LDAC} (in) "Load DAC control input. Active low. When L\D\A\C\ is Low, the DAC latch is simultaneously updated with the content of the input register.", 12 DGND (power) "Digital ground", 13 INV (out) "Junction point of internal scaling resistors. Connect to external operational amplifier inverting input in bipolar mode.", 14 VDD (power) "Analog power supply, +3 V to +5 V", 15 EP (power) "Exposed thermal pad in the QFN package must be connected to analog ground."

## DAC8831IRGYTG4
designator U?
16-Bit, Ultra-Low Power, Voltage Output Digital to Analog Converter, -40 to 85 degC, 14-pin QFN (RGY14), Green (RoHS & no Sb/Br); Manufacturer: Texas Instruments; PartNumber: DAC8831IRGYTG4; DAC Channels: 1; INL(Max)(+/-LSB): 4; Interface: Serial SPI; Power Consumption(Typ)(mW): 0.015; Resolution(Bits): 16; SubFamily: Precision DAC (=<10MSPS); DatasheetVersion: SLAS449D; PackageVersion: 4203539-2/I, 06/2011; PackageReference: RGY14-2050X2050TP; PackageDescription: 14-Pin Plastic Flat Pack, Body 3.5 x 3.5 mm, Pitch 0.5 mm; Supplier 1: Digi-Key; Supplier Part Number 1: DAC8831IRGYTG4-ND; Supplier 2: Mouser; Supplier Part Number 2: 595-DAC8831IRGYTG4; DNL(Max)(+/-LSB): 1; Eco-Plan: Green (RoHS & no Sb/Br); Settling Time(us): 1; Mounting Technology: Surface Mount; Code_JEDEC: MO-241; ComponentLink1Description: Manufacturer URL; ComponentLink1URL: http://www.ti.com/; ComponentLink2Description: Datasheet; ComponentLink2URL: http://www.ti.com/general/docs/lit/getliterature.tsp?genericPartNumber=DAC8831&fileType=pdf; ComponentLink3Description: Package Specification; ComponentLink3URL: http://www.ti.com/lit/ml/mpqf114g/mpqf114g.pdf
footprint TI-RGY14-2050X2050TP_V (QFN, 14-Leads, Body 3.5x3.5mm, Pitch 0.5mm, Thermal Pad 2.05x2.05mm)
pins: 1 RFB (in) "Feedback resistor. Connect to the output of external operational amplifier in bipolar mode.", 2 VOUT (out) "Analog output of DAC", 3 AGNDF (power) "Analog ground (Force)", 4 AGNDS (power) "Analog ground (Sense)", 5 VREF-S (in) "Voltage reference input (Sense). Connect to external voltage reference", 6 VREF-F (in) "Voltage reference input (Force). Connect to external voltage reference", 7 ~{CS} (in) "Chip select input (active low). Data are not clocked into SDI unless C\S\ is low.", 8 SCLK (in) "Serial clock input.", 9 NC "No internal connection", 10 SDI (in) "Serial data input. Data are latched into input register on the rising edge of SCLK", 11 ~{LDAC} (in) "Load DAC control input. Active low. When L\D\A\C\ is Low, the DAC latch is simultaneously updated with the content of the input register.", 12 DGND (power) "Digital ground", 13 INV (out) "Junction point of internal scaling resistors. Connect to external operational amplifier inverting input in bipolar mode.", 14 VDD (power) "Analog power supply, +3 V to +5 V", 15 EP (power) "Exposed thermal pad in the QFN package must be connected to analog ground."

## DAC8831MCDEP
designator U?
Enhanced Product 16-Bit Ultra-Low Power Voltage-Output DAC, -55 to 125 degC, 14-pin SOIC (D14), Green (RoHS & no Sb/Br); Manufacturer: Texas Instruments; PartNumber: DAC8831MCDEP; DAC Channels: 1; Interface: Serial SPI; Power Consumption(Typ)(mW): 0.015; Resolution(Bits): 16; SubFamily: Precision DAC (=<10MSPS); DatasheetVersion: SGLS334C; PackageVersion: 4040047-5/M, 06/2011; PackageReference: D14; PackageDescription: 14-Pin Plastic Small Outline, Body 8.65 x 3.9 mm, Pitch 1.27 mm; Supplier 1: Digi-Key; Supplier Part Number 1: 296-21224-5-ND; Supplier 2: Newark; Supplier Part Number 2: 79R7945; Supplier 3: Mouser; Supplier Part Number 3: 595-DAC8831MCDEP; DNL(Max)(+/-LSB): 1; Eco-Plan: Green (RoHS & no Sb/Br); INL(Max)(+/-LSB): 1; Settling Time(us): 1; Mounting Technology: Surface Mount; Code_JEDEC: MS-012; ComponentLink1Description: Manufacturer URL; ComponentLink1URL: http://www.ti.com/; ComponentLink2Description: Datasheet; ComponentLink2URL: http://www.ti.com/general/docs/lit/getliterature.tsp?genericPartNumber=DAC8831-EP&fileType=pdf; ComponentLink3Description: Package Specification; ComponentLink3URL: http://www.ti.com/lit/ml/mpds177g/mpds177g.pdf
footprint TI-D14_N (SOIC, 14-Leads, Body 8.65x3.9mm, Pitch 1.27mm, IPC Medium Density)
footprint TI-D14_L (SOIC, 14-Leads, Body 8.65x3.9mm, Pitch 1.27mm, IPC High Density)
footprint TI-D14_M (SOIC, 14-Leads, Body 8.65x3.9mm, Pitch 1.27mm, IPC Low Density)
pins: 1 RFB (in) "Feedback resistor. Connect to the output of external operational amplifier in bipolar mode.", 2 VOUT (out) "Analog output of DAC", 3 AGNDF (power) "Analog ground (Force)", 4 AGNDS (power) "Analog ground (Sense)", 5 VREF-S (in) "Voltage reference input (Sense). Connect to external voltage reference", 6 VREF-F (in) "Voltage reference input (Force). Connect to external voltage reference", 7 ~{CS} (in) "Chip select input (active low). Data are not clocked into SDI unless C\S\ is low.", 8 SCLK (in) "Serial clock input.", 9 NC "No internal connection", 10 SDI (in) "Serial data input. Data are latched into input register on the rising edge of SCLK.", 11 ~{LDAC} (in) "Load DAC control input. Active low. When L\D\A\C\ is Low, the DAC latch is simultaneously updated with the content of the input register.", 12 DGND (power) "Digital ground", 13 INV (out) "Junction point of internal scaling resistors. Connect to external operational amplifier inverting input in bipolar mode.", 14 VDD (power) "Analog power supply, +3 V to +5 V."

## DAC8831MCDREP
designator U?
Enhanced Product 16-Bit Ultra-Low Power Voltage-Output DAC, -55 to 125 degC, 14-pin SOIC (D14), Green (RoHS & no Sb/Br); Manufacturer: Texas Instruments; PartNumber: DAC8831MCDREP; DAC Channels: 1; Interface: Serial SPI; Power Consumption(Typ)(mW): 0.015; Resolution(Bits): 16; SubFamily: Precision DAC (=<10MSPS); DatasheetVersion: SGLS334C; PackageVersion: 4040047-5/M, 06/2011; PackageReference: D14; PackageDescription: 14-Pin Plastic Small Outline, Body 8.65 x 3.9 mm, Pitch 1.27 mm; Supplier 1: Digi-Key; Supplier Part Number 1: 296-22563-2-ND; Supplier 2: Digi-Key; Supplier Part Number 2: 296-22563-1-ND; Supplier 3: Digi-Key; Supplier Part Number 3: 296-22563-6-ND; Supplier 4: Mouser; Supplier Part Number 4: 595-DAC8831MCDREP; DNL(Max)(+/-LSB): 1; Eco-Plan: Green (RoHS & no Sb/Br); INL(Max)(+/-LSB): 1; Settling Time(us): 1; Mounting Technology: Surface Mount; Code_JEDEC: MS-012; ComponentLink1Description: Manufacturer URL; ComponentLink1URL: http://www.ti.com/; ComponentLink2Description: Datasheet; ComponentLink2URL: http://www.ti.com/general/docs/lit/getliterature.tsp?genericPartNumber=DAC8831-EP&fileType=pdf; ComponentLink3Description: Package Specification; ComponentLink3URL: http://www.ti.com/lit/ml/mpds177g/mpds177g.pdf
footprint TI-D14_N (SOIC, 14-Leads, Body 8.65x3.9mm, Pitch 1.27mm, IPC Medium Density)
footprint TI-D14_L (SOIC, 14-Leads, Body 8.65x3.9mm, Pitch 1.27mm, IPC High Density)
footprint TI-D14_M (SOIC, 14-Leads, Body 8.65x3.9mm, Pitch 1.27mm, IPC Low Density)
pins: 1 RFB (in) "Feedback resistor. Connect to the output of external operational amplifier in bipolar mode.", 2 VOUT (out) "Analog output of DAC", 3 AGNDF (power) "Analog ground (Force)", 4 AGNDS (power) "Analog ground (Sense)", 5 VREF-S (in) "Voltage reference input (Sense). Connect to external voltage reference", 6 VREF-F (in) "Voltage reference input (Force). Connect to external voltage reference", 7 ~{CS} (in) "Chip select input (active low). Data are not clocked into SDI unless C\S\ is low.", 8 SCLK (in) "Serial clock input.", 9 NC "No internal connection", 10 SDI (in) "Serial data input. Data are latched into input register on the rising edge of SCLK.", 11 ~{LDAC} (in) "Load DAC control input. Active low. When L\D\A\C\ is Low, the DAC latch is simultaneously updated with the content of the input register.", 12 DGND (power) "Digital ground", 13 INV (out) "Junction point of internal scaling resistors. Connect to external operational amplifier inverting input in bipolar mode.", 14 VDD (power) "Analog power supply, +3 V to +5 V."

## DAC8832IBRGYR
designator U?
16-Bit Ultra-Low Power Voltage Output DAC, -40 to 85 degC, 14-pin QFN (RGY14), Green (RoHS & no Sb/Br); Manufacturer: Texas Instruments; PartNumber: DAC8832IBRGYR; DAC Channels: 1; INL(Max)(+/-LSB): 2; Interface: Serial SPI; Power Consumption(Typ)(mW): 0.015; Resolution(Bits): 16; SNR(dB): 92; SubFamily: Precision DAC (=<10MSPS); DatasheetVersion: SBAS380B; PackageVersion: 4203539-2/I, 06/2011; PackageReference: RGY14-2050X2050TP; PackageDescription: 14-Pin Plastic Flat Pack, Body 3.5 x 3.5 mm, Pitch 0.5 mm; Supplier 1: Digi-Key; Supplier Part Number 1: DAC8832IBRGYR-ND; Supplier 2: Newark; Supplier Part Number 2: 81K1786; Supplier 3: Mouser; Supplier Part Number 3: 595-DAC8832IBRGYR; DNL(Max)(+/-LSB): 1; Eco-Plan: Green (RoHS & no Sb/Br); Settling Time(us): 1; Mounting Technology: Surface Mount; Code_JEDEC: MO-241; ComponentLink1Description: Manufacturer URL; ComponentLink1URL: http://www.ti.com/; ComponentLink2Description: Datasheet; ComponentLink2URL: http://www.ti.com/general/docs/lit/getliterature.tsp?genericPartNumber=DAC8832&fileType=pdf; ComponentLink3Description: Package Specification; ComponentLink3URL: http://www.ti.com/lit/ml/mpqf114g/mpqf114g.pdf
footprint TI-RGY14-2050X2050TP_V (QFN, 14-Leads, Body 3.5x3.5mm, Pitch 0.5mm, Thermal Pad 2.05x2.05mm)
pins: 1 RFB (in) "Feedback resistor. Connect to the output of external operational amplifier in bipolar mode.", 2 VOUT (out) "Analog output of DAC", 3 AGNDF (power) "Analog ground (Force)", 4 AGNDS (power) "Analog ground (Sense)", 5 VREF-S (in) "Voltage reference input (Sense). Connect to external voltage reference", 6 VREF-F (in) "Voltage reference input (Force). Connect to external voltage reference", 7 ~{CS} (in) "Chip select input (active low). Data are not clocked into SDI unless C\S\ is low.", 8 SCLK (in) "Serial clock input.", 9 NC "No internal connection", 10 SDI (in) "Serial data input. Data are latched into input register on the rising edge of SCLK", 11 ~{LDAC} (in) "Load DAC control input. Active low. When L\D\A\C\ is Low, the DAC latch is simultaneously updated with the content of the input register.", 12 DGND (power) "Digital ground", 13 INV (out) "Junction point of internal scaling resistors. Connect to external operational amplifier inverting input in bipolar mode.", 14 VDD (power) "Analog power supply, +3 V to +5 V", 15 EP (power) "Exposed thermal pad in the QFN package must be connected to analog ground."